# EAGLE library part ZXMD63N03X (library zetex)
DUAL 30V N-CHANNEL ENHANCEMENT MODE MOSFET Source: Data sheet <http://www.diodes.com/datasheets/ZXMD63N03X.pdf>
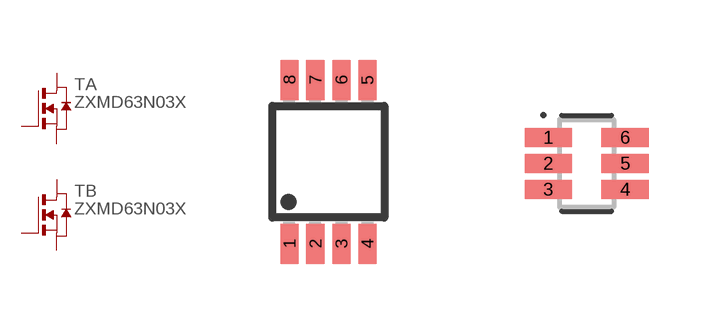
[diagram p0: symbol with the pads of MSOP8; footprints MSOP8, SOT-363]

Designator prefix T; gates A=N_MOSFET B=N_MOSFET

## ZXMD63N03X (OC_FARNELL: unknown; OC_NEWARK: unknown)  [MSOP8]
1  A:S  pas
2  A:G  pas
3  B:S  pas
4  B:G  pas
5  B:D  pas
6  B:D  pas
7  A:D  pas
8  A:D  pas

## ZXMD63N03XSOT-363  [SOT-363]
1  A:D  pas
2  A:G  pas
3  A:S  pas
4  B:D  pas
5  B:G  pas
6  B:S  pas

## Footprint MSOP8 (pad centres in mm)
Micro Small Outline Package
smd 0.45 x 1: 1 -0.975,-2.05; 2 -0.325,-2.05; 3 0.325,-2.05; 4 0.975,-2.05; 5 0.975,2.05; 6 0.325,2.05; 7 -0.325,2.05; 8 -0.975,2.05

## Footprint SOT-363 (pad centres in mm)
6-SOT23, 0.65 mm pitch, 2.1 mm span, 2 X 1.25 X 1.1 mm body 6-pin SOT23 package with 0.65 mm pitch, 2.1 mm span with body size 2 X 1.25 X 1.1 mm
smd 1.186 x 0.472: 1 -0.962,0.65; 2 -0.962,0; 3 -0.962,-0.65; 4 0.962,-0.65; 5 0.962,0; 6 0.962,0.65